# EAGLE library part CY8C3866LTI-068 (library Cypress_By_element14_Batch_1)
Programmable System-on-Chip
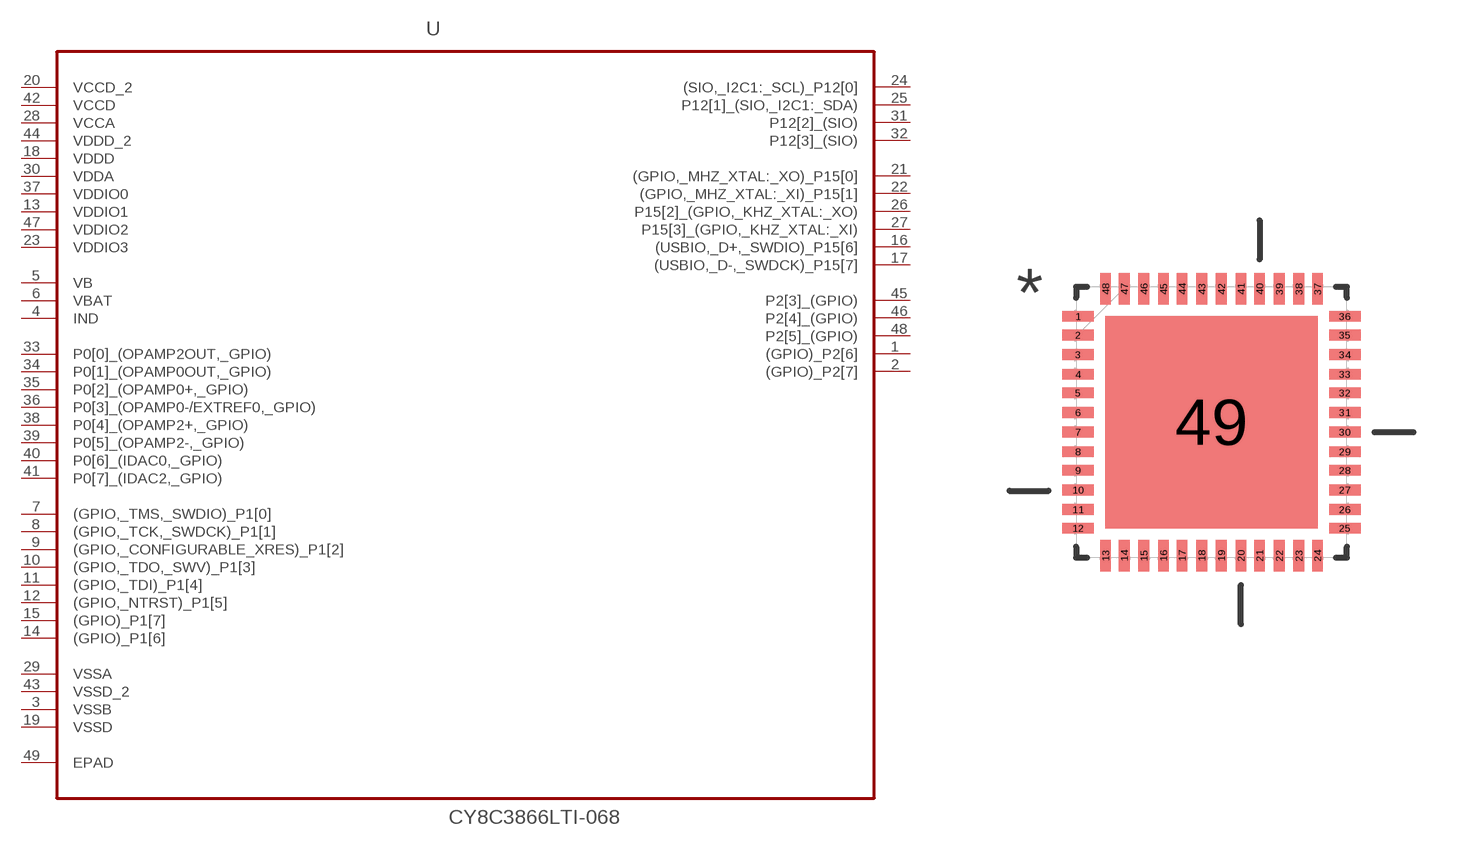
[diagram p20: symbol with the pads of QFN50P700X700X100-49N; footprint QFN50P700X700X100-49N]

Designator prefix U

## CY8C3866LTI-068 (DESCRIPTION: Programmable System-on-Chip; MPN: CY8C3866LTI-068; OC_FARNELL: -; OC_NEWARK: 14T2627; PACKAGE: QFN-48; SUPPLIER: CYPRESS SEMICONDUCTOR)  [QFN50P700X700X100-49N]
1  (GPIO)_P2[6]
2  (GPIO)_P2[7]
3  VSSB  pwr
4  IND  in
5  VB  in
6  VBAT  in
7  (GPIO,_TMS,_SWDIO)_P1[0]
8  (GPIO,_TCK,_SWDCK)_P1[1]
9  (GPIO,_CONFIGURABLE_XRES)_P1[2]
10  (GPIO,_TDO,_SWV)_P1[3]
11  (GPIO,_TDI)_P1[4]
12  (GPIO,_NTRST)_P1[5]
13  VDDIO1  pwr
14  (GPIO)_P1[6]
15  (GPIO)_P1[7]
16  (USBIO,_D+,_SWDIO)_P15[6]
17  (USBIO,_D-,_SWDCK)_P15[7]
18  VDDD  pwr
19  VSSD  pwr
20  VCCD_2  pwr
21  (GPIO,_MHZ_XTAL:_XO)_P15[0]
22  (GPIO,_MHZ_XTAL:_XI)_P15[1]
23  VDDIO3  pwr
24  (SIO,_I2C1:_SCL)_P12[0]
25  P12[1]_(SIO,_I2C1:_SDA)
26  P15[2]_(GPIO,_KHZ_XTAL:_XO)
27  P15[3]_(GPIO,_KHZ_XTAL:_XI)
28  VCCA  pwr
29  VSSA  pwr
30  VDDA  pwr
31  P12[2]_(SIO)
32  P12[3]_(SIO)
33  P0[0]_(OPAMP2OUT,_GPIO)
34  P0[1]_(OPAMP0OUT,_GPIO)
35  P0[2]_(OPAMP0+,_GPIO)
36  P0[3]_(OPAMP0-/EXTREF0,_GPIO)
37  VDDIO0  pwr
38  P0[4]_(OPAMP2+,_GPIO)
39  P0[5]_(OPAMP2-,_GPIO)
40  P0[6]_(IDAC0,_GPIO)
41  P0[7]_(IDAC2,_GPIO)
42  VCCD  pwr
43  VSSD_2  pwr
44  VDDD_2  pwr
45  P2[3]_(GPIO)
46  P2[4]_(GPIO)
47  VDDIO2  pwr
48  P2[5]_(GPIO)
49  EPAD  pas

## Footprint QFN50P700X700X100-49N (pad centres in mm)
smd 0.813 x 0.279: 1 -3.454,2.743; 2 -3.454,2.261; 3 -3.454,1.753; 4 -3.454,1.245; 5 -3.454,0.762; 6 -3.454,0.254; 7 -3.454,-0.254; 8 -3.454,-0.762; 9 -3.454,-1.245; 10 -3.454,-1.753; 11 -3.454,-2.261; 12 -3.454,-2.743; 25 3.454,-2.743; 26 3.454,-2.261; 27 3.454,-1.753; 28 3.454,-1.245; 29 3.454,-0.762; 30 3.454,-0.254; 31 3.454,0.254; 32 3.454,0.762; 33 3.454,1.245; 34 3.454,1.753; 35 3.454,2.261; 36 3.454,2.743
smd 0.279 x 0.813: 13 -2.743,-3.454; 14 -2.261,-3.454; 15 -1.753,-3.454; 16 -1.245,-3.454; 17 -0.762,-3.454; 18 -0.254,-3.454; 19 0.254,-3.454; 20 0.762,-3.454; 21 1.245,-3.454; 22 1.753,-3.454; 23 2.261,-3.454; 24 2.743,-3.454; 37 2.743,3.454; 38 2.261,3.454; 39 1.753,3.454; 40 1.245,3.454; 41 0.762,3.454; 42 0.254,3.454; 43 -0.254,3.454; 44 -0.762,3.454; 45 -1.245,3.454; 46 -1.753,3.454; 47 -2.261,3.454; 48 -2.743,3.454
smd 5.512 x 5.512: 49 0,0